# EAGLE library part A3921 (library A3921)
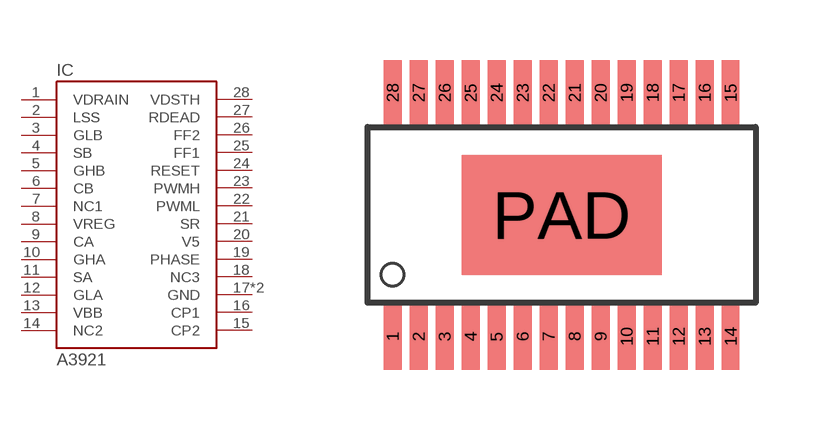
[diagram p0: symbol with the pads of A3921; footprint A3921]

Designator prefix IC

## A3921  [A3921]
1  VDRAIN
2  LSS
3  GLB
4  SB
5  GHB
6  CB
7  NC1
8  VREG
9  CA
10  GHA
11  SA
12  GLA
13  VBB
14  NC2
15  CP2
16  CP1
17  GND
18  NC3
19  PHASE
20  V5
21  SR
22  PWML
23  PWMH
24  RESET
25  FF1
26  FF2
27  RDEAD
28  VDSTH
PAD  GND

## Footprint A3921 (pad centres in mm)
Allegro社のフルブリッジゲートドライバA3921のフットプリントです。
smd 0.45 x 1.65: 1 0,-0.9; 2 0.65,-0.9; 3 1.3,-0.9; 4 1.95,-0.9; 5 2.6,-0.9; 6 3.25,-0.9; 7 3.9,-0.9; 8 4.55,-0.9; 9 5.2,-0.9; 10 5.85,-0.9; 11 6.5,-0.9; 12 7.15,-0.9; 13 7.8,-0.9; 14 8.45,-0.9; 15 8.45,5.2; 16 7.8,5.2; 17 7.15,5.2; 18 6.5,5.2; 19 5.85,5.2; 20 5.2,5.2; 21 4.55,5.2; 22 3.9,5.2; 23 3.25,5.2; 24 2.6,5.2; 25 1.95,5.2; 26 1.3,5.2; 27 0.65,5.2; 28 0,5.2
smd 5 x 3: PAD 4.225,2.15